# Altium schematic symbol library MCP97XX-SOT23.SchLib: 1 symbol
Pins are listed as number, name and electrical type; pins without a type are passive.

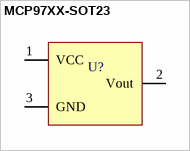
[diagram p0: symbol MCP97XX-SOT23]

## MCP97XX-SOT23
designator U?  (value not drawn)
pins: 1 VCC (power), 2 Vout (oc), 3 GND (power)